# Altium footprint library IC_W25Q16JVUXIQ_TR.PcbLib: 1 footprints
Each footprint in its own frame and in the unit in brackets; x right, y up, seen from the top. Pads: shape width x height; smd on the part's side, far side on the other; paste and mask are expansions set on the pad; w line width, h text height; cw(c..) or ccw(c..) is an arc to the next point about the centre after c.
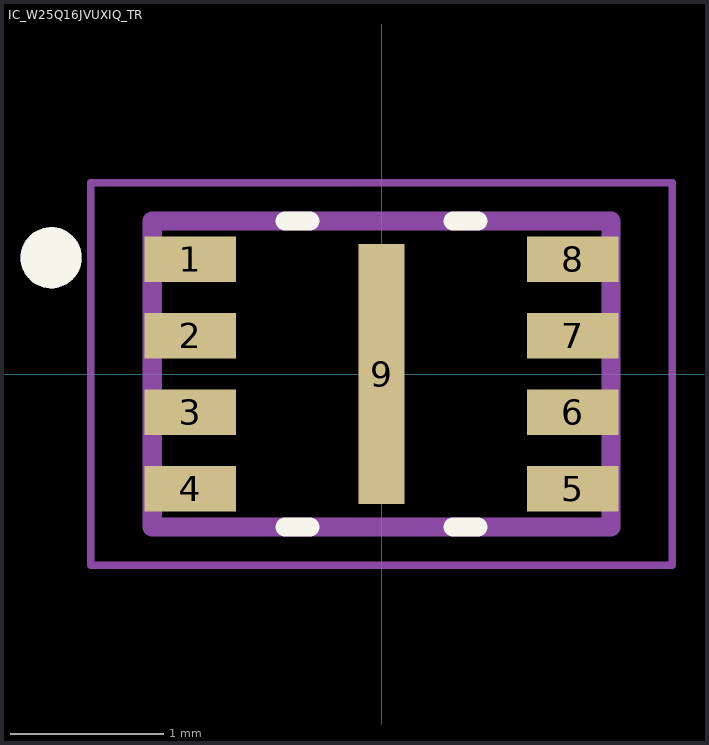
[diagram p0: the footprint, top view; thin cyan lines are the x and y axes]

## IC_W25Q16JVUXIQ_TR [mm]
height 0.6
pads (9):
  rect 0.6x0.3 smd paste-1: 1(-1.25,0.75) 2(-1.25,0.25) 3(-1.25,-0.25) 4(-1.25,-0.75) 5(1.25,-0.75) 6(1.25,-0.25) 7(1.25,0.25) 8(1.25,0.75)
  rect 0.3x1.7 smd paste-2: 9(0,0)
Top Overlay:
  circle w0.2: c-2.16,0.76 r0.1
  lines w0.127: -0.63,-1 -0.47,-1 ; -0.63,1 -0.47,1 ; 0.47,-1 0.63,-1 ; 0.47,1 0.63,1
Top Paste:
  region: -1.1,0.65 -1.65,0.65 -1.65,0.85 -1.1,0.85
  region: -1.1,0.15 -1.65,0.15 -1.65,0.35 -1.1,0.35
  region: -1.1,-0.35 -1.65,-0.35 -1.65,-0.15 -1.1,-0.15
  region: -1.1,-0.85 -1.65,-0.85 -1.65,-0.65 -1.1,-0.65
  region: 1.65,0.65 1.1,0.65 1.1,0.85 1.65,0.85
  region: 1.65,0.15 1.1,0.15 1.1,0.35 1.65,0.35
  region: 1.65,-0.35 1.1,-0.35 1.1,-0.15 1.65,-0.15
  region: 1.65,-0.85 1.1,-0.85 1.1,-0.65 1.65,-0.65
  region: 0.1,0.1 -0.1,0.1 -0.1,0.6 0.1,0.6
  region: 0.1,-0.6 -0.1,-0.6 -0.1,-0.1 0.1,-0.1
Mechanical 13:
  circle w0.2: c-2.16,0.76 r0.1
  lines w0.127: -1.5,-1 -1.5,1 1.5,1 1.5,-1 -1.5,-1
Mechanical 15:
  lines w0.05: -1.9,-1.25 -1.9,1.25 1.9,1.25 1.9,-1.25 -1.9,-1.25
3D body "step_temp.STEP": height 0.6, standoff 0, extent -1.5,-1 1.5,1